# EAGLE library part HDMI_MOLEX (library CrystalVideo)
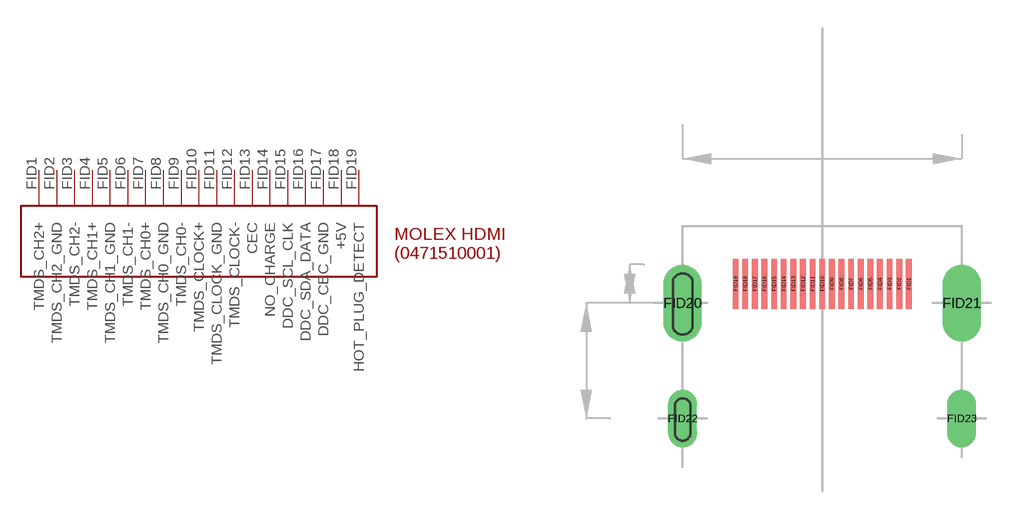
[diagram p3: symbol with the pads of HDMI_MOLEX; footprint HDMI_MOLEX]

Designator prefix -

## HDMI_MOLEX  [HDMI_MOLEX]
FID1  TMDS_CH2+
FID2  TMDS_CH2_GND
FID3  TMDS_CH2-
FID4  TMDS_CH1+
FID5  TMDS_CH1_GND
FID6  TMDS_CH1-
FID7  TMDS_CH0+
FID8  TMDS_CH0_GND
FID9  TMDS_CH0-
FID10  TMDS_CLOCK+
FID11  TMDS_CLOCK_GND
FID12  TMDS_CLOCK-
FID13  CEC
FID14  NO_CHARGE
FID15  DDC_SCL_CLK
FID16  DDC_SDA_DATA
FID17  DDC_CEC_GND
FID18  +5V
FID19  HOT_PLUG_DETECT

## Footprint HDMI_MOLEX (pad centres in mm)
Molex HDMI surface mount connector Molex Part: 0471510001 http://www.molex.com/pdm_docs/sd/471510001_sd.pdf
smd 0.3 x 2.6: FID1 4.5,4.75; FID2 4,4.75; FID3 3.5,4.75; FID4 3,4.75; FID5 2.5,4.75; FID6 2,4.75; FID7 1.5,4.75; FID8 1,4.75; FID9 0.5,4.75; FID10 0,4.75; FID11 -0.5,4.75; FID12 -1,4.75; FID13 -1.5,4.75; FID14 -2,4.75; FID15 -2.5,4.75; FID16 -3,4.75; FID17 -3.5,4.75; FID18 -4,4.75; FID19 -4.5,4.75
drill 0.9 pad 2 long: FID20 -7.25,3.75; FID21 7.25,3.75
drill 0.9 pad 1.5 long: FID22 -7.25,-2.25; FID23 7.25,-2.25